# EAGLE library part WS2812 (library RadEagleLib)
Tricolor LED TEST
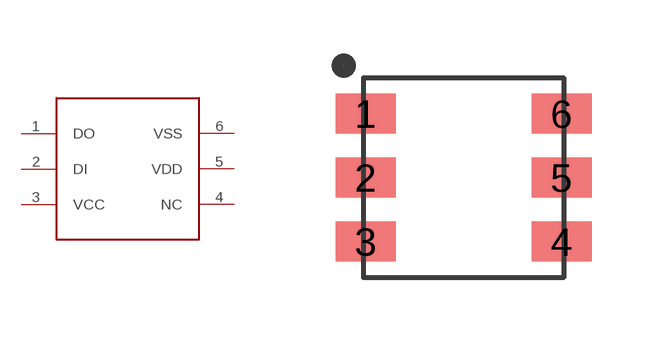
[diagram p0: symbol with the pads of WS2812PKG; footprint WS2812PKG]

Designator prefix -

## WS2812  [WS2812PKG]
1  DO
2  DI
3  VCC
4  NC
5  VDD
6  VSS

## Footprint WS2812PKG (pad centres in mm)
smd 1.5 x 1: 1 -2.45,1.6; 2 -2.45,0; 3 -2.45,-1.6; 4 2.45,-1.6; 5 2.45,0; 6 2.45,1.6